# Altium footprint library SOT-89-5.PcbLib: 1 footprints
Each footprint in its own frame and in the unit in brackets; x right, y up, seen from the top. Pads: shape width x height; smd on the part's side, far side on the other; paste and mask are expansions set on the pad; w line width, h text height; cw(c..) or ccw(c..) is an arc to the next point about the centre after c.
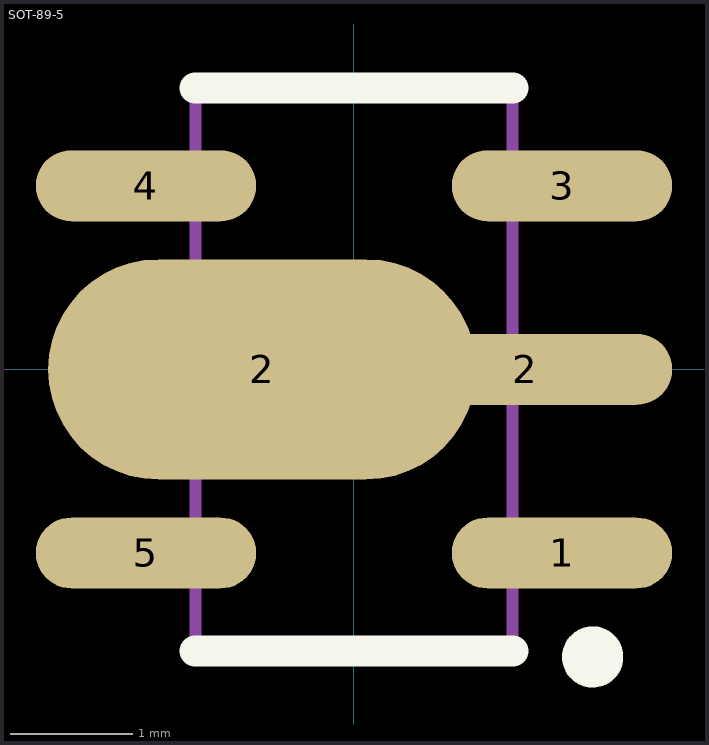
[diagram p0: the footprint, top view; thin cyan lines are the x and y axes]

## SOT-89-5 [mm]
pads (6):
  oval 1.8x0.58 smd: 1(1.7,-1.5) 3(1.7,1.5) 4(-1.7,1.5) 5(-1.7,-1.5)
  oval 3.5x1.8 smd: 2(-0.75,0)
  oval 2.4x0.58 smd: 2(1.4,0)
Top Overlay:
  circle w0.25: c1.95,-2.35 r0.125
  lines w0.254: -1.3,-2.3 1.3,-2.3 ; -1.3,2.3 1.3,2.3
Mechanical 13:
  lines w0.1: -1.295,-2.3 1.295,-2.3 1.295,2.3 -1.295,2.3 -1.295,-2.3
3D body: height 1.5, standoff 0, extent -2.175,-2.25 2.175,2.25